# Altium schematic symbol library SW PUSH NO SMD.Schlib: 1 symbol
Pins are listed as number, name and electrical type; pins without a type are passive.

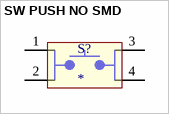
[diagram p0: symbol SW PUSH NO SMD]

## SW PUSH NO SMD
designator S?
Tactile Switch SPST-NO Top Actuated Surface Mount 12V 50mA
pins: 1, 2, 3, 4